# EAGLE library part TMP101 (library Kas-Sensors)
TMP101 Temperature sensor Digital Temperature Sensor with I2C Serial Interface, Prog. Thermostat/Alarm Function
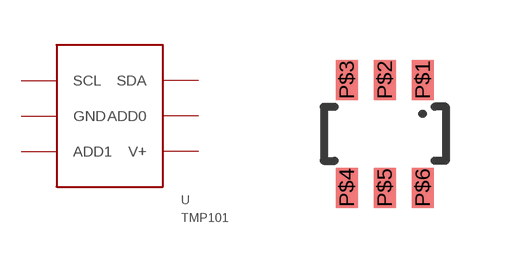
[diagram p13: symbol with the pads of SOT23-6; footprint SOT23-6]

Designator prefix U

## TMP101"  [SOT23-6]
P$1  SCL
P$2  GND
P$3  ADD1
P$4  V+
P$5  ADD0
P$6  SDA

## Footprint SOT23-6 (pad centres in mm)
smd 0.55 x 1: P$1 0.95,1.35; P$2 0,1.35; P$3 -0.95,1.35; P$4 -0.95,-1.35; P$5 0,-1.35; P$6 0.95,-1.35